# Altium schematic symbol library SCH - POWER - SWITCHMODE - TI LM5166.SCHLIB: 1 symbol
Pins are listed as number, name and electrical type; pins without a type are passive.

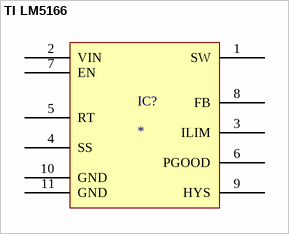
[diagram p0: symbol TI LM5166]

## TI LM5166
designator IC?
pins: 1 SW, 2 VIN, 3 ILIM, 4 SS, 5 RT, 6 PGOOD, 7 EN, 8 FB, 9 HYS, 10 GND, 11 GND